# Altium footprint library 开关.PcbLib: 7 footprints
Each footprint in its own frame and in the unit in brackets; x right, y up, seen from the top. Pads: shape width x height; smd on the part's side, far side on the other; paste and mask are expansions set on the pad; w line width, h text height; cw(c..) or ccw(c..) is an arc to the next point about the centre after c.
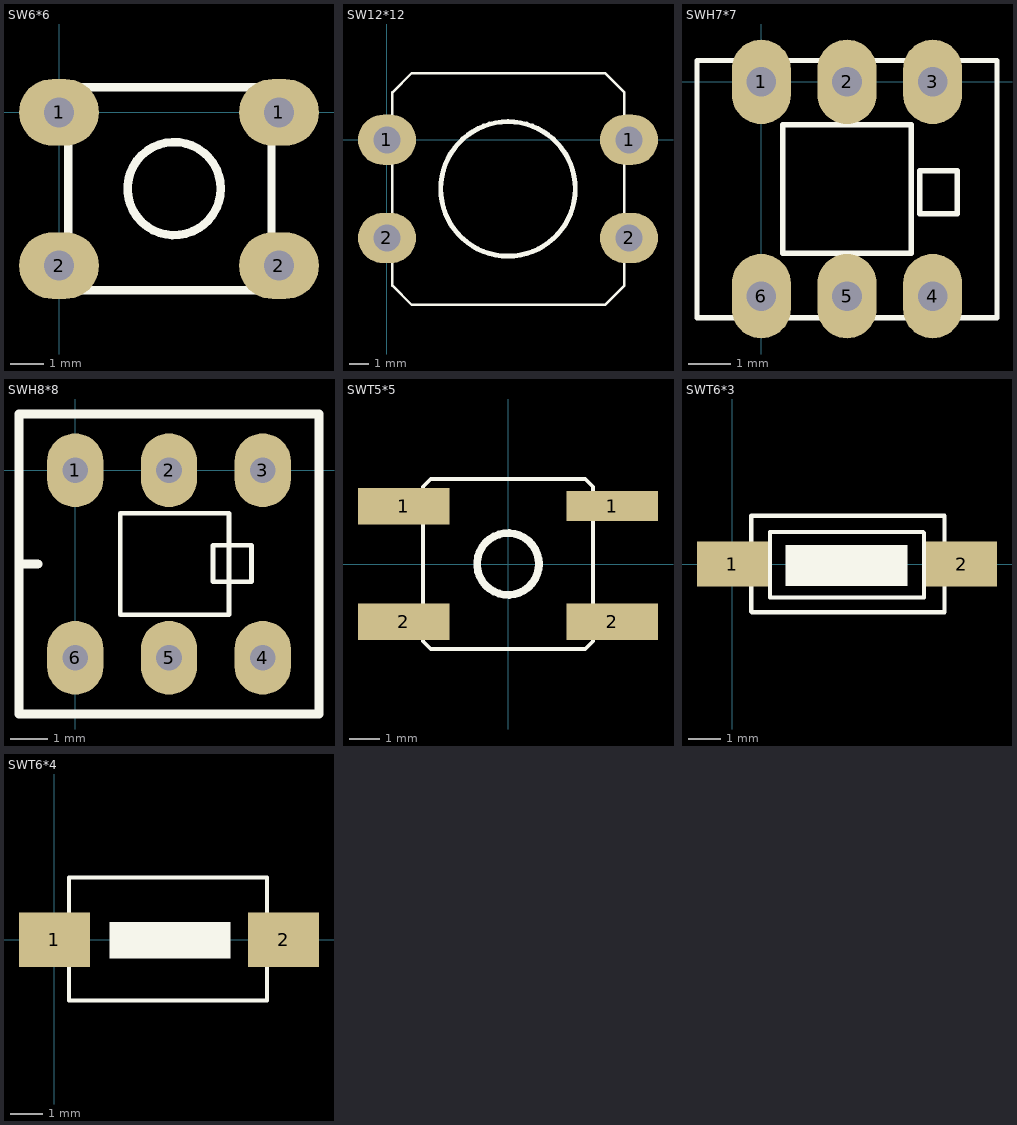
[diagram p0: the footprints below, top view; thin cyan lines are the x and y axes]

## SW6*6 [mm]
pads (4):
  oval 2.4x2 hole 0.9: 1(0,0) 1(6.6,0) 2(0,-4.6) 2(6.6,-4.6)
Top Overlay:
  circle w0.254: c3.454,-2.289 r1.397
  lines w0.254: 0.279,-5.337 0.279,0.759 6.375,0.759 6.375,-5.337 0.279,-5.337

## SW12*12 [mm]
pads (4):
  oval 3x2.6 hole 1.4: 1(0,0) 1(12.522,0) 2(0,-5.08) 2(12.522,-5.08)
Top Overlay:
  circle w0.254: c6.261,-2.54 r3.48
  lines w0.127: 0.279,-7.546 0.279,2.454 1.279,3.454 11.279,3.454 12.279,2.454 12.279,-7.546 11.279,-8.546 1.279,-8.546 0.279,-7.546

## SWH7*7 [mm]
pads (6):
  oval 1.4x2 hole 0.7: 1(0,0) 2(2.032,0) 3(4.064,0) 4(4.064,-5.08) 5(2.032,-5.08) 6(0,-5.08)
Top Overlay:
  lines w0.127: -1.524,-5.588 -1.524,0.508 5.588,0.508 5.588,-5.588 -1.524,-5.588 ; 0.508,-4.064 0.508,-1.016 3.556,-1.016 3.556,-4.064 0.508,-4.064 ; 3.759,-3.124 4.267,-3.124 4.648,-3.124 4.648,-2.108 4.47,-2.108 4.267,-2.108 3.759,-2.108 3.759,-3.124

## SWH8*8 [mm]
pads (6):
  oval 1.524x2 hole 0.7: 1(0,0) 2(2.54,0) 3(5.08,0) 4(5.08,-5.08) 5(2.54,-5.08) 6(0,-5.08)
Top Overlay:
  lines w0.127: 1.219,-3.734 1.219,-3.912 ; 1.219,-3.912 1.219,-1.168 4.166,-1.168 4.166,-3.912 1.219,-3.912 ; 3.734,-3.023 4.775,-3.023 4.775,-2.032 3.734,-2.032 3.734,-3.023
  lines w0.254: -1.524,-2.54 -1.016,-2.54 ; -1.524,-6.604 6.604,-6.604 6.604,1.524 -1.524,1.524 -1.524,-6.604

## SWT5*5 [mm]
pads (4):
  rect 3x1.2 smd: 1(-3.429,1.905) 2(-3.429,-1.905) 2(3.429,-1.905)
  rect 3x1 smd: 1(3.429,1.905)
Top Overlay:
  circle w0.254: c0,0 r1.016
  lines w0.127: -2.794,-2.54 -2.54,-2.794 2.54,-2.794 2.794,-2.54 2.794,2.54 2.54,2.794 0,2.794 -2.54,2.794 -2.794,2.54 -2.794,-2.54

## SWT6*3 [mm]
pads (2):
  rect 2.2x1.4 smd: 1(0,0) 2(7.112,0)
Top Overlay:
  rectangle: 1.651,-0.686 5.436,0.584
  lines w0.127: 0.584,-1.473 0.61,-1.499 6.579,-1.499 6.579,1.499 0.584,1.499 0.584,0 0.584,-1.473 ; 1.168,-1.041 5.944,-1.041 5.944,0.965 5.918,0.991 1.168,0.991 1.168,-1.041

## SWT6*4 [mm]
pads (2):
  rect 2.2x1.7 smd: 1(0,0) 2(7.112,0)
Top Overlay:
  rectangle: 1.702,-0.584 5.461,0.559
  lines w0.127: 0.457,-1.88 0.457,1.93 6.604,1.93 6.604,-1.88 0.457,-1.88